# Altium footprint library TQFP-48(7.0X7.0).PcbLib: 1 footprints
Each footprint in its own frame and in the unit in brackets; x right, y up, seen from the top. Pads: shape width x height; smd on the part's side, far side on the other; paste and mask are expansions set on the pad; w line width, h text height; cw(c..) or ccw(c..) is an arc to the next point about the centre after c.
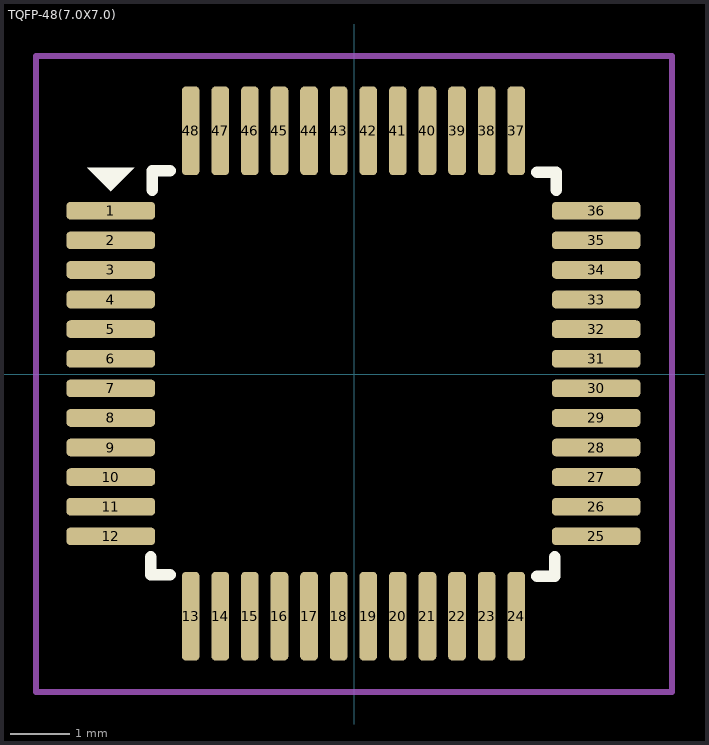
[diagram p0: the footprint, top view; thin cyan lines are the x and y axes]

## TQFP-48(7.0X7.0) [mm]
pads (48):
  rrect50% 1.5x0.3 smd: 1(-4.109,2.758) 2(-4.109,2.258) 3(-4.109,1.758) 4(-4.109,1.258) 5(-4.109,0.758) 6(-4.109,0.258) 7(-4.109,-0.242) 8(-4.109,-0.742) 9(-4.109,-1.242) 10(-4.109,-1.742) 11(-4.109,-2.242) 12(-4.109,-2.742) 25(4.091,-2.742) 26(4.091,-2.242) 27(4.091,-1.742) 28(4.091,-1.242) 29(4.091,-0.742) 30(4.091,-0.242) 31(4.091,0.258) 32(4.091,0.758) 33(4.091,1.258) 34(4.091,1.758) 35(4.091,2.258) 36(4.091,2.758)
  rrect50% 0.3x1.5 smd: 13(-2.759,-4.092) 14(-2.259,-4.092) 15(-1.759,-4.092) 16(-1.259,-4.092) 17(-0.759,-4.092) 18(-0.259,-4.092) 19(0.241,-4.092) 20(0.741,-4.092) 21(1.241,-4.092) 22(1.741,-4.092) 23(2.241,-4.092) 24(2.741,-4.092) 37(2.741,4.108) 38(2.241,4.108) 39(1.741,4.108) 40(1.241,4.108) 41(0.741,4.108) 42(0.241,4.108) 43(-0.259,4.108) 44(-0.759,4.108) 45(-1.259,4.108) 46(-1.759,4.108) 47(-2.259,4.108) 48(-2.759,4.108)
Top Overlay:
  region: -4.509,3.483 -3.709,3.483 -4.109,3.083
  lines w0.2: -3.434,-3.392 -3.434,-3.092 ; -3.409,-3.392 -3.109,-3.392 ; -3.409,3.108 -3.409,3.408 ; -3.409,3.433 -3.109,3.433 ; 3.091,-3.417 3.391,-3.417 ; 3.091,3.408 3.391,3.408 ; 3.391,-3.392 3.391,-3.092 ; 3.416,3.108 3.416,3.408
Top Courtyard:
  lines w0.1: -5.375,-5.375 5.375,-5.375 5.375,5.375 -5.375,5.375 -5.375,-5.375
3D body "TQFP-48.STEP": height 1.45, standoff -0.01, extent -4.509,-4.492 4.491,4.508